# Altium schematic symbol library SWITCH(Tactile, 6x6mm, 5mm_Height, TH).SchLib: 1 symbol
Pins are listed as number, name and electrical type; pins without a type are passive.

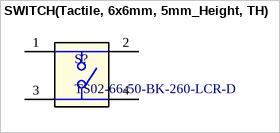
[diagram p0: symbol SWITCH(Tactile, 6x6mm, 5mm_Height, TH)]

## SWITCH(Tactile, 6x6mm, 5mm_Height, TH)
designator S?, comment TS02-66-50-BK-260-LCR-D
6 x 6 mm, 5 mm Actuator Height, 260 gf, Black, Long Crimped, Through Hole, SPST, Tactile Switch; Manufacturer: Same Sky; Manufacturer_PN: TS02-66-50-BK-260-LCR-D; Package: TH-6x6mm; Datasheet: https://www.sameskydevices.com/product/resource/ts02.pdf; Digikey_Link: https://www.digikey.it/en/products/detail/same-sky-formerly-cui-devices/TS02-66-50-BK-260-LCR-D/15634249?s=N4IgTCBcDaICoGUAMYC0A2dqCsTUCEBpVMdPAGQGEAlVAERAF0BfIA
footprint SW_TS02-66-50-BK-260-LCR-D
pins: 1, 2, 3, 4